# EAGLE library part MM74HC393N (library Fairchild_By_element14_Batch_1)
Dual 4-Bit Binary Counter
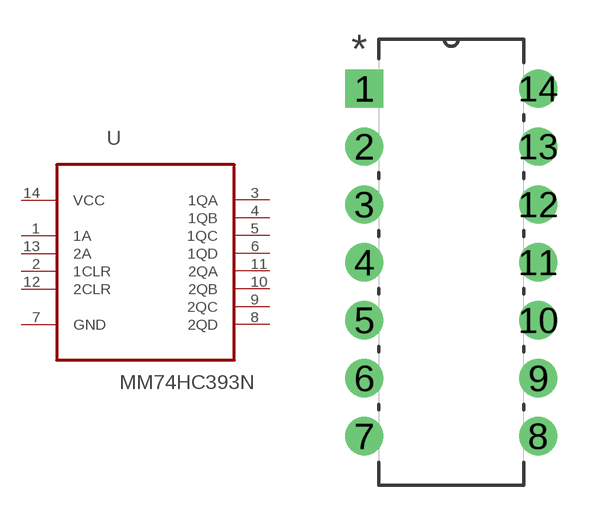
[diagram p280: symbol with the pads of DIP254P762X508-14; footprint DIP254P762X508-14]

Designator prefix U

## MM74HC393N (MPN: MM74HC393N; OC_FARNELL: 1013940; OC_NEWARK: 58K1948; PACKAGE: PDIP-14; SUPPLIER: Fairchild)  [DIP254P762X508-14]
1  1A  in
2  1CLR  in
3  1QA  out
4  1QB  out
5  1QC  out
6  1QD  out
7  GND  pas
8  2QD  out
9  2QC  out
10  2QB  out
11  2QA  out
12  2CLR  in
13  2A  in
14  VCC  pwr

## Footprint DIP254P762X508-14 (pad centres in mm)
drill 1.118 square: 1 -7.62,15.24
drill 1.118: 2 -7.62,12.7; 3 -7.62,10.16; 4 -7.62,7.62; 5 -7.62,5.08; 6 -7.62,2.54; 7 -7.62,0; 8 0,0; 9 0,2.54; 10 0,5.08; 11 0,7.62; 12 0,10.16; 13 0,12.7; 14 0,15.24